# Altium integrated library RR511D1121.IntLib: 1 symbol
Pins are listed as number, name and electrical type; pins without a type are passive.

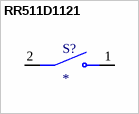
[diagram p0: symbol RR511D1121]

## RR511D1121
designator S?
Rocker Switch, RR5 Series, SPST,OFF-ON,Blk Rocker,I/O Legend, 20A, 125VAC, QC; MP: RR511D1121; MF: E-Switch; Check_prices: https://www.snapeda.com/parts/RR511D1121/E-Switch/view-part/?ref=eda; Value: *; Availability: In Stock; Price: None; Package: None; SnapEDA_Link: https://www.snapeda.com/parts/RR511D1121/E-Switch/view-part/?ref=snap; Purchase-URL: https://pricing.snapeda.com/search/part/RR511D1121/?ref=eda
footprint E-SWITCH_RR511D1121
pins: 1 NO, 2 COM